# EAGLE library part G4W-2212P-US-TV5-HP-DC12 (library UBCSolar)
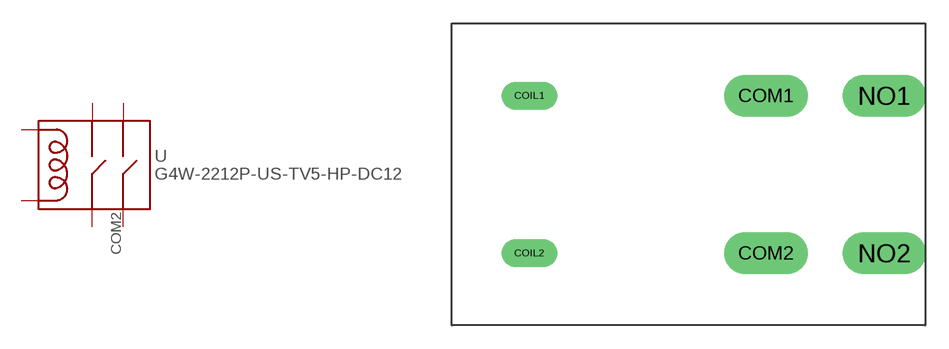
[diagram p21: symbol with the pads of G4W-2212P-US-TV5-HP-DC12; footprint G4W-2212P-US-TV5-HP-DC12]

Designator prefix -

## G4W-2212P-US-TV5-HP-DC12  [G4W-2212P-US-TV5-HP-DC12]
COIL1  COIL1
COIL2  COIL2
COM1  COM1
COM2  COM2
NO1  NO1
NO2  NO2

## Footprint G4W-2212P-US-TV5-HP-DC12 (pad centres in mm)
G4W-2212P-US-TV5-HP-DC12 DPST 10A relay https://www.digikey.ca/product-detail/en/omron-electronics-inc-emc-div/G4W-2212P-US-TV5-HP-DC12/Z3693-ND/1815535
drill 1.2 long: COIL1 -15.24,5.08; COIL2 -15.24,-5.08
drill 1.8 long: COM1 0,5.08; COM2 0,-5.08; NO1 7.62,5.08; NO2 7.62,-5.08